# EAGLE library part ADAU1761 (library NewSDR)
Analog Devices SigmaDSP Stereo, Low Power, 96 kHz, 24-bit Audio CODEC with Integrated PLL
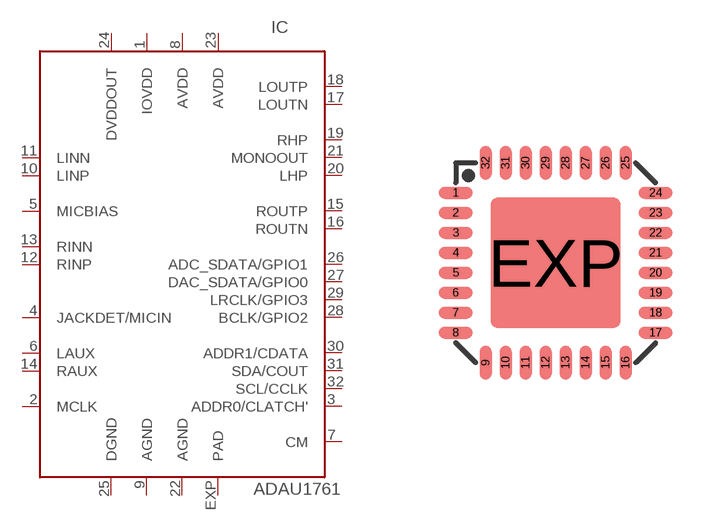
[diagram p156: symbol with the pads of LFCSP32; footprint LFCSP32]

Designator prefix IC

## ADAU1761  [LFCSP32]
1  IOVDD  pwr
2  MCLK  in
3  ADDR0/CLATCH'  in
4  JACKDET/MICIN  in
5  MICBIAS  pwr
6  LAUX  in
7  CM  pas
8  AVDD  pwr
9  AGND  pwr
10  LINP  in
11  LINN  in
12  RINP  in
13  RINN  in
14  RAUX  in
15  ROUTP  out
16  ROUTN  out
17  LOUTN  out
18  LOUTP  out
19  RHP  out
20  LHP  out
21  MONOOUT  out
22  AGND  pwr
23  AVDD  pwr
24  DVDDOUT  pwr
25  DGND  pwr
26  ADC_SDATA/GPIO1
27  DAC_SDATA/GPIO0
28  BCLK/GPIO2
29  LRCLK/GPIO3
30  ADDR1/CDATA  in
31  SDA/COUT
32  SCL/CCLK  in
EXP  PAD  pwr

## Footprint LFCSP32 (pad centres in mm)
32-Lead Lead Frame Chip Scale Package 5 mm × 5 mm (CP-32) Source: www.analog.com
smd 0.85 x 0.3: 1 -2.5,1.75; 2 -2.5,1.25; 3 -2.5,0.75; 4 -2.5,0.25; 5 -2.5,-0.25; 6 -2.5,-0.75; 7 -2.5,-1.25; 8 -2.5,-1.75; 17 2.5,-1.75; 18 2.5,-1.25; 19 2.5,-0.75; 20 2.5,-0.25; 21 2.5,0.25; 22 2.5,0.75; 23 2.5,1.25; 24 2.5,1.75
smd 0.3 x 0.85: 9 -1.75,-2.5; 10 -1.25,-2.5; 11 -0.75,-2.5; 12 -0.25,-2.5; 13 0.25,-2.5; 14 0.75,-2.5; 15 1.25,-2.5; 16 1.75,-2.5; 25 1.75,2.5; 26 1.25,2.5; 27 0.75,2.5; 28 0.25,2.5; 29 -0.25,2.5; 30 -0.75,2.5; 31 -1.25,2.5; 32 -1.75,2.5
smd 3.25 x 3.25: EXP 0,0